# Altium schematic symbol library Connectors.SchLib: 5 symbols
Pins are listed as number, name and electrical type; pins without a type are passive.

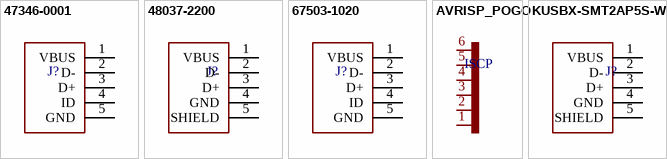
[diagram p0: symbols 47346-0001 to KUSBX-SMT2AP5S-W]

## 47346-0001
designator J?, comment MICRO_USB_FEMALE  (value not drawn)
MICRO USB, 2.0 TYPE B, RECETPACLE, SMT; USB Connector Type:Micro USB Type B; USB Standard:USB 2.0; Gender:Receptacle; No. of Positions:5; Connector Mounting:Surface Mount; Orientation:Right Angle; Contact Material:Copper Alloy; Manufacturer: Molex; Manufacturer Part Number: 47346-0001; Gender: Female; Number of Contacts: 5; Max Voltage Rating (AC): 30V; Connector Type: USB,Receptacle; Number of Ports: 1; Contact Resistance: 40mR; Current Rating: 1.8A; Contact Current Rating: 1A; USB Standard: USB 2.0; Pitch: 0.65mm; Glow Wire Compliant: Non-compliant; Supplier 1: Farnell; Supplier Part Number 1: 2426321; RoHS: Yes; Category: Headers and Wire Housings; Stock 1: 2000; Mount: Surface Mount; Weight: 0.01lb; Contact Plating: Gold; Contact Material: Copper Alloy,Copper; Number of Terminals: 5; Housing Material: Polymer; Color: Black; Min Operating Temperature: -20°C; Max Operating Temperature: 85°C; Orientation: Right Angle; Packaging: Tape and Reel; Termination: SMD/SMT; Voltage Rating (AC): 30V; Number of Circuits: 5; Number of Positions: 5; Number of Rows: 1; Voltage Rating: 30V; Length: 7.8mm; Height: 0.25inch; Width: 0.25inch; REACH SVHC: Unknown; Lead Free: Lead Free; Halogen Free: Low Halogen; ComponentLink1URL: https://datasheet.ciiva.com/11731/0900766b80dfe0a7-11731298.pdf?src-supplier=RSComponents; ComponentLink1Description: https://datasheet.ciiva.com/11731/0900766b80dfe0a7-11731298.pdf?src-supplier=RSComponents; ComponentLink2URL: https://datasheet.ciiva.com/16148/1700180473460001-io-nectors-16148917.pdf?src-supplier=Onlinecomponents.com; ComponentLink2Description: https://datasheet.ciiva.com/16148/1700180473460001-io-nectors-16148917.pdf?src-supplier=Onlinecomponents.com; ComponentLink3URL: https://datasheet.ciiva.com/30075/304740473460001-io-nectors-30075527.pdf?src-supplier=Onlinecomponents.com; ComponentLink3Description: https://datasheet.ciiva.com/30075/304740473460001-io-nectors-30075527.pdf?src-supplier=Onlinecomponents.com; ComponentLink4URL: https://datasheet.ciiva.com/4598/0473460001-io-connectors-146446-4598841.pdf?src-supplier=Mouser; ComponentLink4Description: https://datasheet.ciiva.com/4598/0473460001-io-connectors-146446-4598841.pdf?src-supplier=Mouser; ComponentLink5URL: https://datasheet.ciiva.com/1098/1698067-1098476.pdf?src-supplier=Element14; ComponentLink5Description: https://datasheet.ciiva.com/1098/1698067-1098476.pdf?src-supplier=Element14; ComponentLink6URL: https://datasheet.ciiva.com/22654/1630785-22654942.pdf?src-supplier=Element14; ComponentLink6Description: https://datasheet.ciiva.com/22654/1630785-22654942.pdf?src-supplier=Element14; ComponentLink7URL: https://datasheet.ciiva.com/16986/70266948-16986683.pdf?src-supplier=Allied+Electronics; ComponentLink7Description: https://datasheet.ciiva.com/16986/70266948-16986683.pdf?src-supplier=Allied+Electronics; ComponentLink8URL: https://datasheet.ciiva.com/28504/0473460001-io-connectors-28504587.pdf?src-supplier=Element14; ComponentLink8Description: https://datasheet.ciiva.com/28504/0473460001-io-connectors-28504587.pdf?src-supplier=Element14; ComponentLink9URL: https://datasheet.ciiva.com/46390/1681853-46390956.pdf?src-supplier=Element14; ComponentLink9Description: https://datasheet.ciiva.com/46390/1681853-46390956.pdf?src-supplier=Element14; Price: 0.693
footprint MICRO USB
pins: 1 VBUS, 2 D-, 3 D+, 4 ID, 5 GND

## 48037-2200
designator J?, comment USB_MALE  (value not drawn)
USB Connectors USB A PLUG SMT STR S SHELL LEG 3.8mm L/F; Manufacturer: Molex; Manufacturer Part Number: 48037-2200; Number of Ports: 1; Number of Contacts: 4; Connector Type: USB,Plug; Max Voltage Rating (AC): 150V; Insulation Resistance: 1GR; Gender: Male; Current Rating: 1.5A; Pitch: 2mm; Supplier 1: Farnell; Supplier Part Number 1: 2313729; RoHS: Yes; Category: Connectors; Stock: 1058; Mount: Surface Mount; Number of Terminals: 4; Housing Material: Nylon; Contact Plating: Gold; Contact Material: Brass; Color: Black; Min Operating Temperature: -20°C; Max Operating Temperature: 85°C; Termination: Solder; Orientation: Right Angle; Packaging: Tape and Reel; Voltage Rating: 150V; Number of Rows: 1; Number of Circuits: 4; Voltage Rating (AC): 150V; Radiation Hardening: No; REACH SVHC: Unknown; Halogen Free: Low Halogen; ComponentLink1URL: https://datasheet.ciiva.com/22654/1701284-22654928.pdf?src-supplier=Element14; ComponentLink1Description: https://datasheet.ciiva.com/22654/1701284-22654928.pdf?src-supplier=Element14; ComponentLink2URL: https://datasheet.ciiva.com/16148/1690390480372200-io-nectors-16148911.pdf?src-supplier=Onlinecomponents.com; ComponentLink2Description: https://datasheet.ciiva.com/16148/1690390480372200-io-nectors-16148911.pdf?src-supplier=Onlinecomponents.com; ComponentLink3URL: https://datasheet.ciiva.com/4598/0480372200-io-connectors-146329-4598955.pdf?src-supplier=Mouser; ComponentLink3Description: https://datasheet.ciiva.com/4598/0480372200-io-connectors-146329-4598955.pdf?src-supplier=Mouser; ComponentLink4URL: https://datasheet.ciiva.com/30049/331280480372200-io-nectors-30049803.pdf?src-supplier=Onlinecomponents.com; ComponentLink4Description: https://datasheet.ciiva.com/30049/331280480372200-io-nectors-30049803.pdf?src-supplier=Onlinecomponents.com; ComponentLink5URL: https://datasheet.ciiva.com/16667/0480372200-io-connectors-16667879.pdf?src-supplier=Avnet+Europe; ComponentLink5Description: https://datasheet.ciiva.com/16667/0480372200-io-connectors-16667879.pdf?src-supplier=Avnet+Europe; Price: 0.794
footprint USB_MALE
pins: 1 VBUS, 2 D-, 3 D+, 4 GND, 5 SHIELD

## 67503-1020
designator J?, comment MINI_USB_FEMALE  (value not drawn)
Conn Mini USB 2.0 Type B RCP 5 POS 0.8mm Solder RA SMD 5 Terminal 1 Port USB OTG T/R; Manufacturer: Molex; Manufacturer Part Number: 67503-1020; Gender: Female; Current Rating: 1A; Connector Type: USB,Receptacle; Number of Ports: 1; Number of Contacts: 5; Contact Resistance: 50mR; Max Voltage Rating (DC): 3.03kV; Voltage Rating (AC): 30V; Insulation Resistance: 100MR; Data Rate: 480Mbps; USB Standard: USB 2.0; Glow Wire Compliant: Non-compliant; Supplier 1: Farnell; Supplier Part Number 1: 1125348; RoHS: Yes; Category: Headers and Wire Housings; Stock 1: 10744; Contact Plating: Gold; Color: Black,Grey; Contact Material: Bronze,Copper Alloy,Copper; Number of Terminals: 5; Housing Material: Nylon; Min Operating Temperature: 0°C; Max Operating Temperature: 50°C; Termination: Solder; Packaging: Tape and Reel; Orientation: Right Angle; Voltage Rating: 30V; Max Voltage Rating (AC): 30V; Working Voltage: 30V; Number of Positions: 5; Number of Circuits: 5; Number of Rows: 1; Length: 9.9mm; Pitch: 0.8mm; Width: 6.9mm; Depth: 9mm; Terminal Pitch: 0.8mm; Radiation Hardening: No; Flammability Rating: UL94 V-0; REACH SVHC: Unknown; Lead Free: Lead Free; ComponentLink1URL: https://datasheet.ciiva.com/10035/0675031020-io-connectors-10035283.pdf?src-supplier=Avnet; ComponentLink1Description: https://datasheet.ciiva.com/10035/0675031020-io-connectors-10035283.pdf?src-supplier=Avnet; ComponentLink2URL: https://datasheet.ciiva.com/16143/1693580675031020-io-nectors-16143316.pdf?src-supplier=Onlinecomponents.com; ComponentLink2Description: https://datasheet.ciiva.com/16143/1693580675031020-io-nectors-16143316.pdf?src-supplier=Onlinecomponents.com; ComponentLink3URL: https://datasheet.ciiva.com/4598/0675031020-io-connectors-172123-4598933.pdf?src-supplier=Mouser; ComponentLink3Description: https://datasheet.ciiva.com/4598/0675031020-io-connectors-172123-4598933.pdf?src-supplier=Mouser; ComponentLink4URL: https://datasheet.ciiva.com/11731/0900766b812b4bc6-11731385.pdf?src-supplier=RSComponents; ComponentLink4Description: https://datasheet.ciiva.com/11731/0900766b812b4bc6-11731385.pdf?src-supplier=RSComponents; ComponentLink5URL: https://datasheet.ciiva.com/26945/getdatasheetpartid-786372-26945705.pdf?src-supplier=Verical; ComponentLink5Description: https://datasheet.ciiva.com/26945/getdatasheetpartid-786372-26945705.pdf?src-supplier=Verical; ComponentLink6URL: https://datasheet.ciiva.com/1099/1827209-1099037.pdf?src-supplier=Element14; ComponentLink6Description: https://datasheet.ciiva.com/1099/1827209-1099037.pdf?src-supplier=Element14; ComponentLink7URL: https://datasheet.ciiva.com/25907/0675031020-io-connectors-25907541.pdf?src-supplier=Avnet+Europe; ComponentLink7Description: https://datasheet.ciiva.com/25907/0675031020-io-connectors-25907541.pdf?src-supplier=Avnet+Europe; ComponentLink8URL: https://datasheet.ciiva.com/46385/1862938-46385125.pdf?src-supplier=Element14; ComponentLink8Description: https://datasheet.ciiva.com/46385/1862938-46385125.pdf?src-supplier=Element14; ComponentLink9URL: https://datasheet.ciiva.com/46385/1739445-46385126.pdf?src-supplier=Element14; ComponentLink9Description: https://datasheet.ciiva.com/46385/1739445-46385126.pdf?src-supplier=Element14; ComponentLink10URL: https://datasheet.ciiva.com/3094/0675031020-io-connectors-3094391.pdf?src-supplier=Avnet; ComponentLink10Description: https://datasheet.ciiva.com/3094/0675031020-io-connectors-3094391.pdf?src-supplier=Avnet; ComponentLink11URL: https://datasheet.ciiva.com/15181/getdatasheetpartid-111434-15181162.pdf?src-supplier=Verical; ComponentLink11Description: https://datasheet.ciiva.com/15181/getdatasheetpartid-111434-15181162.pdf?src-supplier=Verical
pins: 1 VBUS, 2 D-, 3 D+, 4 ID, 5 GND

## AVRISP_POGO
designator ISCP, comment ICSP  (value not drawn)
footprint AVRISP_POGO
pins: 1 ~{RST} (power), 2 MOSI (power), 3 MISO (power), 4 SCK (power), 5 GND (power), 6 VCC (power)

## KUSBX-SMT2AP5S-W
designator J?, comment USB_MALE  (value not drawn)
Conn USB Type A PL 4 POS 2mm Solder ST SMD 4 Terminal 1 Port; Manufacturer: Kycon; Manufacturer Part Number: KUSBX-SMT2AP5S-W; Gender: Male; Insulation Resistance: 1GR; Number of Positions: 4; Number of Ports: 1; Connector Type: USB,Plug; Current Rating: 1A; Supplier 1: Mouser; RoHS: Yes; Category: USB Connectors; Stock 1: 8377; Mount: Surface Mount; Contact Plating: Gold; Color: Black; Contact Material: Bronze; Housing Material: Thermoplastic; Termination: SMD/SMT; Package Quantity: 100; Packaging: Tray; Number of Contacts: 4; Orientation: Straight; Pitch: 2mm; Radiation Hardening: No; Flammability Rating: UL94 V-0; ComponentLink1URL: https://datasheet.ciiva.com/12494/kusbx-371999-12494840.pdf?src-supplier=Mouser; ComponentLink1Description: https://datasheet.ciiva.com/12494/kusbx-371999-12494840.pdf?src-supplier=Mouser; Price: 0.735
footprint USB_MALE
pins: 1 VBUS, 2 D-, 3 D+, 4 GND, 5 SHIELD